# EAGLE library part AUDIOAMP_MAX98357 (library MakeItLabs)
MAX98357 - 3.2W I2S Mono Audio Amp
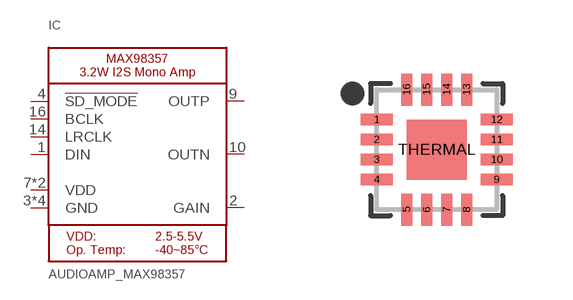
[diagram p15: symbol with the pads of QFN16_3MM; footprint QFN16_3MM]

Designator prefix IC

## AUDIOAMP_MAX98357  [QFN16_3MM]
1  DIN
2  GAIN
3  GND  pwr
4  !SD_MODE
7  VDD  pwr
8  VDD  pwr
9  OUTP  out
10  OUTN  out
11  GND  pwr
14  LRCLK
15  GND  pwr
16  BCLK
THERMAL  GND  pwr

## Footprint QFN16_3MM (pad centres in mm)
smd 0.8 x 0.28: 1 -1.5,0.75; 2 -1.5,0.25; 3 -1.5,-0.25; 4 -1.5,-0.75; 9 1.5,-0.75; 10 1.5,-0.25; 11 1.5,0.25; 12 1.5,0.75
smd 0.28 x 0.8: 5 -0.75,-1.5; 6 -0.25,-1.5; 7 0.25,-1.5; 8 0.75,-1.5; 13 0.75,1.5; 14 0.25,1.5; 15 -0.25,1.5; 16 -0.75,1.5
smd 1.5 x 1.5: THERMAL 0,0